# Altium footprint library mbed-enablement-platform.PCBLIB: 51 footprints (part 4 of 4)
Each footprint in its own frame and in the unit in brackets; x right, y up, seen from the top. Pads: shape width x height; smd on the part's side, far side on the other; paste and mask are expansions set on the pad; w line width, h text height; cw(c..) or ccw(c..) is an arc to the next point about the centre after c.
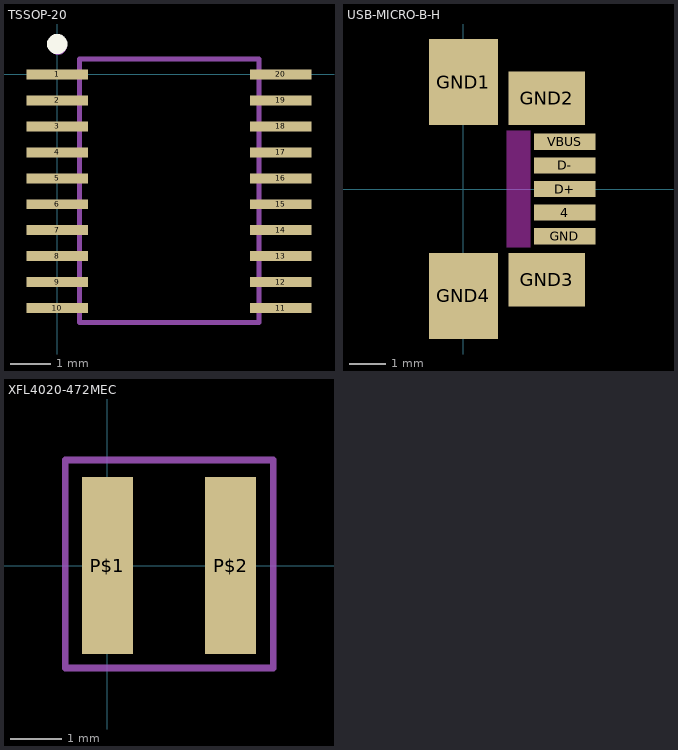
[diagram p3: the footprints below, top view; thin cyan lines are the x and y axes]

## TSSOP-20 [mm]
pads (20):
  rect 1.55x0.25 smd: 1(0,0) 2(0,-0.65) 3(0,-1.3) 4(0,-1.95) 5(0,-2.6) 6(0,-3.25) 7(0,-3.9) 8(0,-4.55) 9(0,-5.2) 10(0,-5.85) 11(5.6,-5.85) 12(5.6,-5.2) 13(5.6,-4.55) 14(5.6,-3.9) 15(5.6,-3.25) 16(5.6,-2.6) 17(5.6,-1.95) 18(5.6,-1.3) 19(5.6,-0.65) 20(5.6,0)
Top Overlay:
  circle w0.254: c0,0.762 r0.127
Mechanical 2:
  circle w0.127: c0.019,0.718 r0.163
  lines w0.127: 0.555,-6.217 0.555,0.383 5.055,0.383 5.055,-6.217 0.555,-6.217

## USB-MICRO-B-H [mm]
pads (9):
  rect 1.7x0.45 smd: 4(2.8,-0.65) D+(2.8,0) D-(2.8,0.65) GND(2.8,-1.3) VBUS(2.8,1.3)
  rect 1.9x2.375 smd: GND1(0,2.95) GND4(0,-2.95)
  rect 2.1x1.475 smd: GND2(2.3,2.5) GND3(2.3,-2.5)
Top Layer keep-out:
  region: 1.2,-1.6 1.2,1.6 1.85,1.6 1.85,-1.6
Top Solder:
  region: -1.05,0.2 -1.05,1.35 1.05,1.35 1.05,0.2
  region: -1.05,-1.35 -1.05,-0.2 1.05,-0.2 1.05,-1.35
3D body "473460001.stp": height 2.74, standoff -0.2, extent -2.653,-3.99 2.777,3.99

## XFL4020-472MEC [mm]
pads (2):
  rect 0.98x3.4 smd: P$1(0,0) P$2(2.37,0)
Mechanical 2:
  lines w0.127: -0.807,-1.969 -0.807,2.031 3.193,2.031 3.193,-1.969 -0.807,-1.969